# Altium schematic symbol library ESDS312DBVR.SchLib: 1 symbol
Pins are listed as number, name and electrical type; pins without a type are passive.

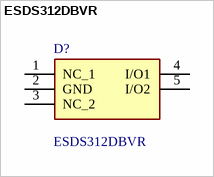
[diagram p0: symbol ESDS312DBVR]

## ESDS312DBVR
designator D?
3.6V Data-Line Surge and 30kV ESD Protection Diode Array; Manufacturer_Name: Texas Instruments; Geometry.Height: 1.45mm; Mouser Part Number: 595-ESDS312DBVR; Mouser Price/Stock: https://www.mouser.co.uk/ProductDetail/Texas-Instruments/ESDS312DBVR?qs=byeeYqUIh0PGNqB7QuJpTA%3D%3D; Manufacturer_Part_Number: ESDS312DBVR; Datasheet Link: http://www.ti.com/lit/gpn/esds312
footprint SOT95P280X145-5N
pins: 1 NC_1, 2 GND, 3 NC_2, 4 I/O1, 5 I/O2